# Altium schematic symbol library T491A476M006AT.SchLib: 2 symbols
Pins are listed as number, name and electrical type; pins without a type are passive.

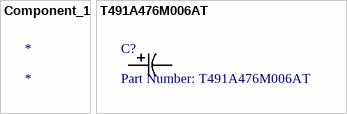
[diagram p0: symbols Component_1 to T491A476M006AT]

## Component_1
designator *

## T491A476M006AT
designator C?, comment Part Number: T491A476M006AT
No Description Available; Vendor: Kemet; Built_By: EMA_UL_Team; SourceLibrary: Kemet_2012-01-01_Caps1_2; Type: DEV; Manufacturer_Part_Number: T491A476M006AT; Copyright: Copyright (C) 2018 Accelerated Designs. All rights reserved; RefDes: RefDes; Value: Value
footprint CAPT3216N_KEM
pins: 1, 2